# Altium footprint library SIWA_socket .PcbLib: 1 footprints
Each footprint in its own frame and in the unit in brackets; x right, y up, seen from the top. Pads: shape width x height; smd on the part's side, far side on the other; paste and mask are expansions set on the pad; w line width, h text height; cw(c..) or ccw(c..) is an arc to the next point about the centre after c.
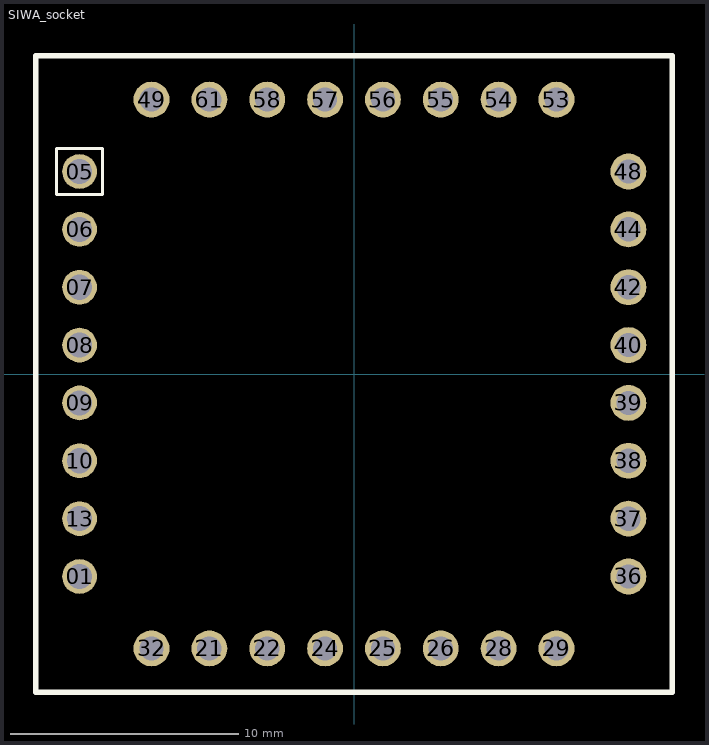
[diagram p0: the footprint, top view; thin cyan lines are the x and y axes]

## SIWA_socket [mil]
pads (32):
  round 60 hole 43.31: 01(-474.41,-350) 05(-474.41,350) 06(-474.41,250) 07(-474.41,150) 08(-474.41,50) 09(-474.41,-50) 10(-474.41,-150) 13(-474.41,-250)
  round 62 hole 42 paste-99999 mask+0: 21(-250,-474.41) 22(-150,-474.41) 24(-50,-474.41) 25(50,-474.41) 26(150,-474.41) 28(250,-474.41) 29(350,-474.41) 32(-350,-474.41) 36(474.41,-350) 37(474.41,-250) 38(474.41,-150) 39(474.41,-50) 40(474.41,50) 42(474.41,150) 44(474.41,250) 48(474.41,350) 49(-350,474.41) 53(350,474.41) 54(250,474.41) 55(150,474.41) 56(50,474.41) 57(-50,474.41) 58(-150,474.41) 61(-250,474.41)
Top Overlay:
  lines w5: -514.41,310 -434.41,310 -434.41,390 -514.41,390 -514.41,310
  lines w10: -550,-550 550,-550 550,550 -550,550 -550,-550